# EAGLE library part MAX522 (library MAX522)
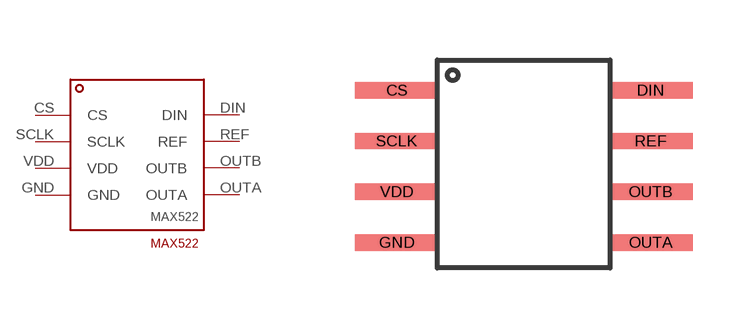
[diagram p0: symbol with the pads of MAX522; footprint MAX522]

Designator prefix -

## MAX522  [MAX522]
CS  CS  in
DIN  DIN  in
GND  GND  pwr
OUTA  OUTA  out
OUTB  OUTB  out
REF  REF  pwr
SCLK  SCLK  in
VDD  VDD  pwr

## Footprint MAX522 (pad centres in mm)
smd 2.1 x 0.406: CS -2.54,1.27; DIN 3.81,1.27; GND -2.54,-2.54; OUTA 3.81,-2.54; OUTB 3.81,-1.27; REF 3.81,0; SCLK -2.54,0; VDD -2.54,-1.27